# EAGLE library part XM7D-0512 (library SamacSys_Parts)
OMRON ELECTRONIC COMPONENTS - XM7D-0512 - MINI USB, 2.0 TYPE B, RECEPTACLE, TH Source: Datasheet <https://componentsearchengine.com/Datasheets/1/XM7D-0512.pdf>
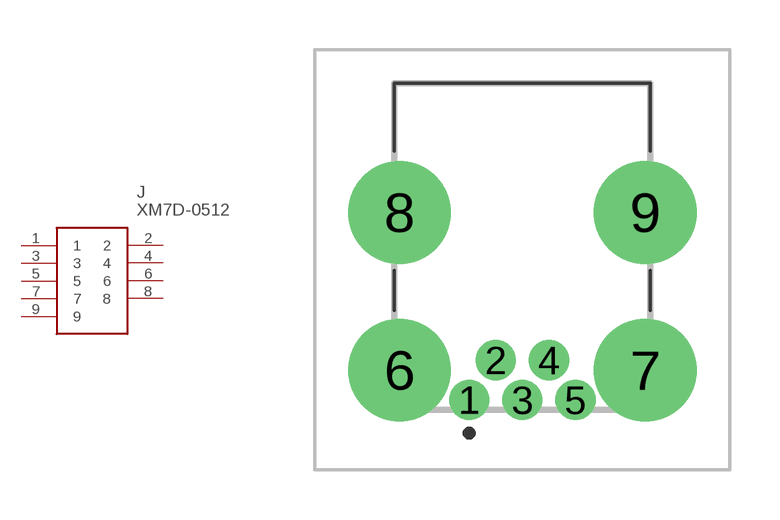
[diagram p0: symbol with the pads of XM7D0512; footprint XM7D0512]

Designator prefix J

## XM7D-0512 (Description: OMRON ELECTRONIC COMPONENTS - XM7D-0512 - MINI USB, 2.0 TYPE B, RECEPTACLE, TH; Height: 3mm; Manufacturer_Name: Omron Electronics; Manufacturer_Part_Number: XM7D-0512; Mouser_Part_Number: 653-XM7D-0512)  [XM7D0512]
1  1
2  2
3  3
4  4
5  5
6  6
7  7
8  8
9  9

## Footprint XM7D0512 (pad centres in mm)
XM7D-0512
drill 0.7 pad 1.2: 1 -1.6,-4.225; 2 -0.8,-3.025; 3 0,-4.225; 4 0.8,-3.025; 5 1.6,-4.225
drill 2.062 pad 3.092: 6 -3.7,-3.325; 7 3.7,-3.325; 8 -3.7,1.425; 9 3.7,1.425